# Altium footprint library PLCC32.PcbLib: 1 footprints
Each footprint in its own frame and in the unit in brackets; x right, y up, seen from the top. Pads: shape width x height; smd on the part's side, far side on the other; paste and mask are expansions set on the pad; w line width, h text height; cw(c..) or ccw(c..) is an arc to the next point about the centre after c.
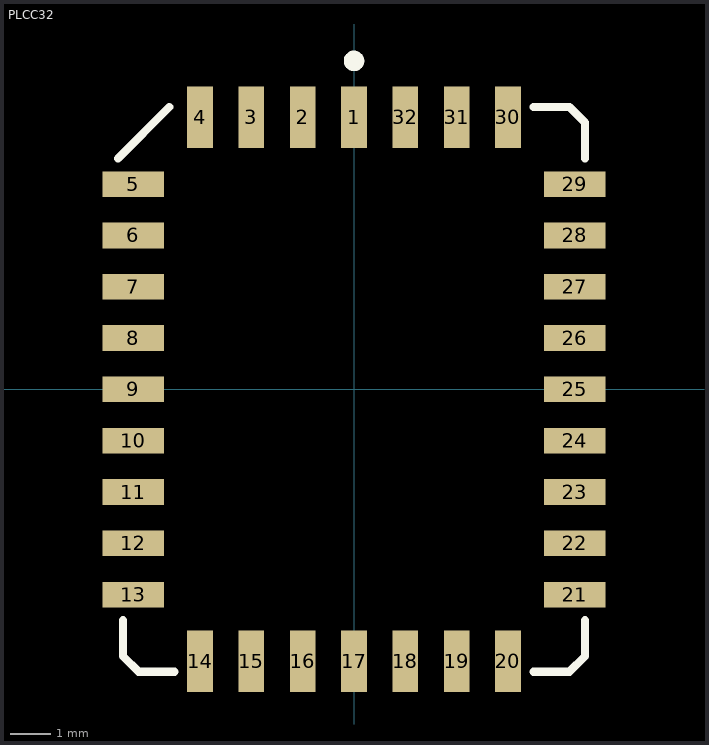
[diagram p0: the footprint, top view; thin cyan lines are the x and y axes]

## PLCC32 [mil]
pads (32):
  rect 25x60 smd: 1(0,265) 2(-50,265) 3(-100,265) 4(-150,265) 14(-150,-265) 15(-100,-265) 16(-50,-265) 17(0,-265) 18(50,-265) 19(100,-265) 20(150,-265) 30(150,265) 31(100,265) 32(50,265)
  rect 60x25 smd: 5(-215,200) 6(-215,150) 7(-215,100) 8(-215,50) 9(-215,0) 10(-215,-50) 11(-215,-100) 12(-215,-150) 13(-215,-200) 21(215,-200) 22(215,-150) 23(215,-100) 24(215,-50) 25(215,0) 26(215,50) 27(215,100) 28(215,150) 29(215,200)
Top Overlay:
  circle w10: c0,320 r5
  lines w8: -230,225 -180,275 ; -225,-225 -225,-260 -210,-275 -175,-275 ; 175,-275 210,-275 225,-260 225,-225 ; 175,275 210,275 225,260 225,225
3D body: height 140, standoff -0.02, extent -249.54,-300 249.54,299.08